# Altium footprint library 54819-0519.PcbLib: 1 footprints
Each footprint in its own frame and in the unit in brackets; x right, y up, seen from the top. Pads: shape width x height; smd on the part's side, far side on the other; paste and mask are expansions set on the pad; w line width, h text height; cw(c..) or ccw(c..) is an arc to the next point about the centre after c.
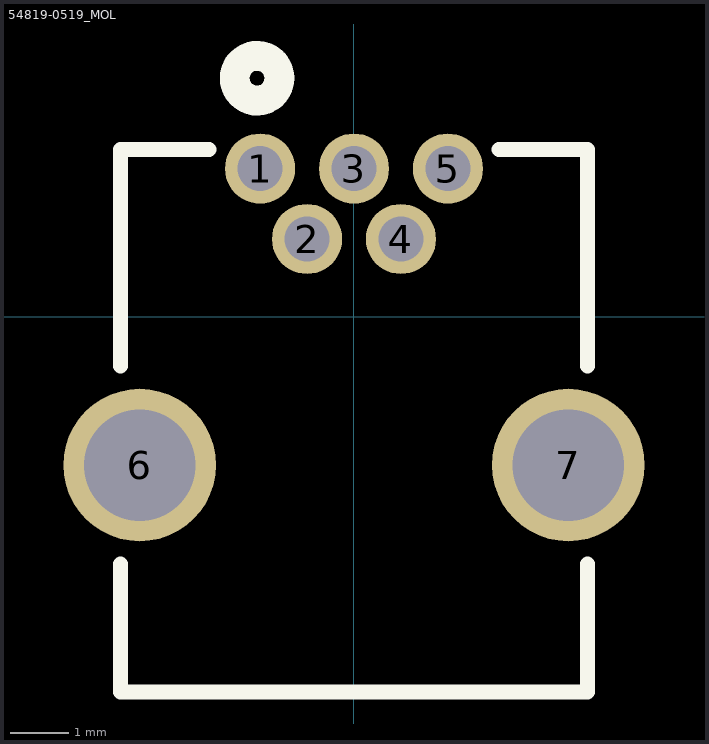
[diagram p0: the footprint, top view; thin cyan lines are the x and y axes]

## 54819-0519_MOL [mm]
pads (7):
  round 1.194 hole 0.762 mask+0: 1(-1.6,2.525) 2(-0.8,1.325) 3(0,2.525) 4(0.8,1.325) 5(1.6,2.525)
  round 2.6 hole 1.9: 6(-3.65,-2.525) 7(3.65,-2.525)
Top Overlay:
  circle w0.508: c-1.651,4.064 r0.381
  lines w0.254: -3.975,-4.211 -3.975,-6.394 3.975,-6.394 3.975,-4.211 ; -3.975,-0.839 -3.975,2.852 -2.47,2.852 ; 2.47,2.852 3.975,2.852 3.975,-0.839
3D body: height 0.25, standoff 0, extent -1.6,2.525 -1.346,2.779
3D body "548190519.stp": height 3.86, standoff -1.9, extent -3.81,-6.278 3.89,2.722